# Altium integrated library HARTING DIN 41612 Type R.IntLib: 72 symbols (part 2 of 2)
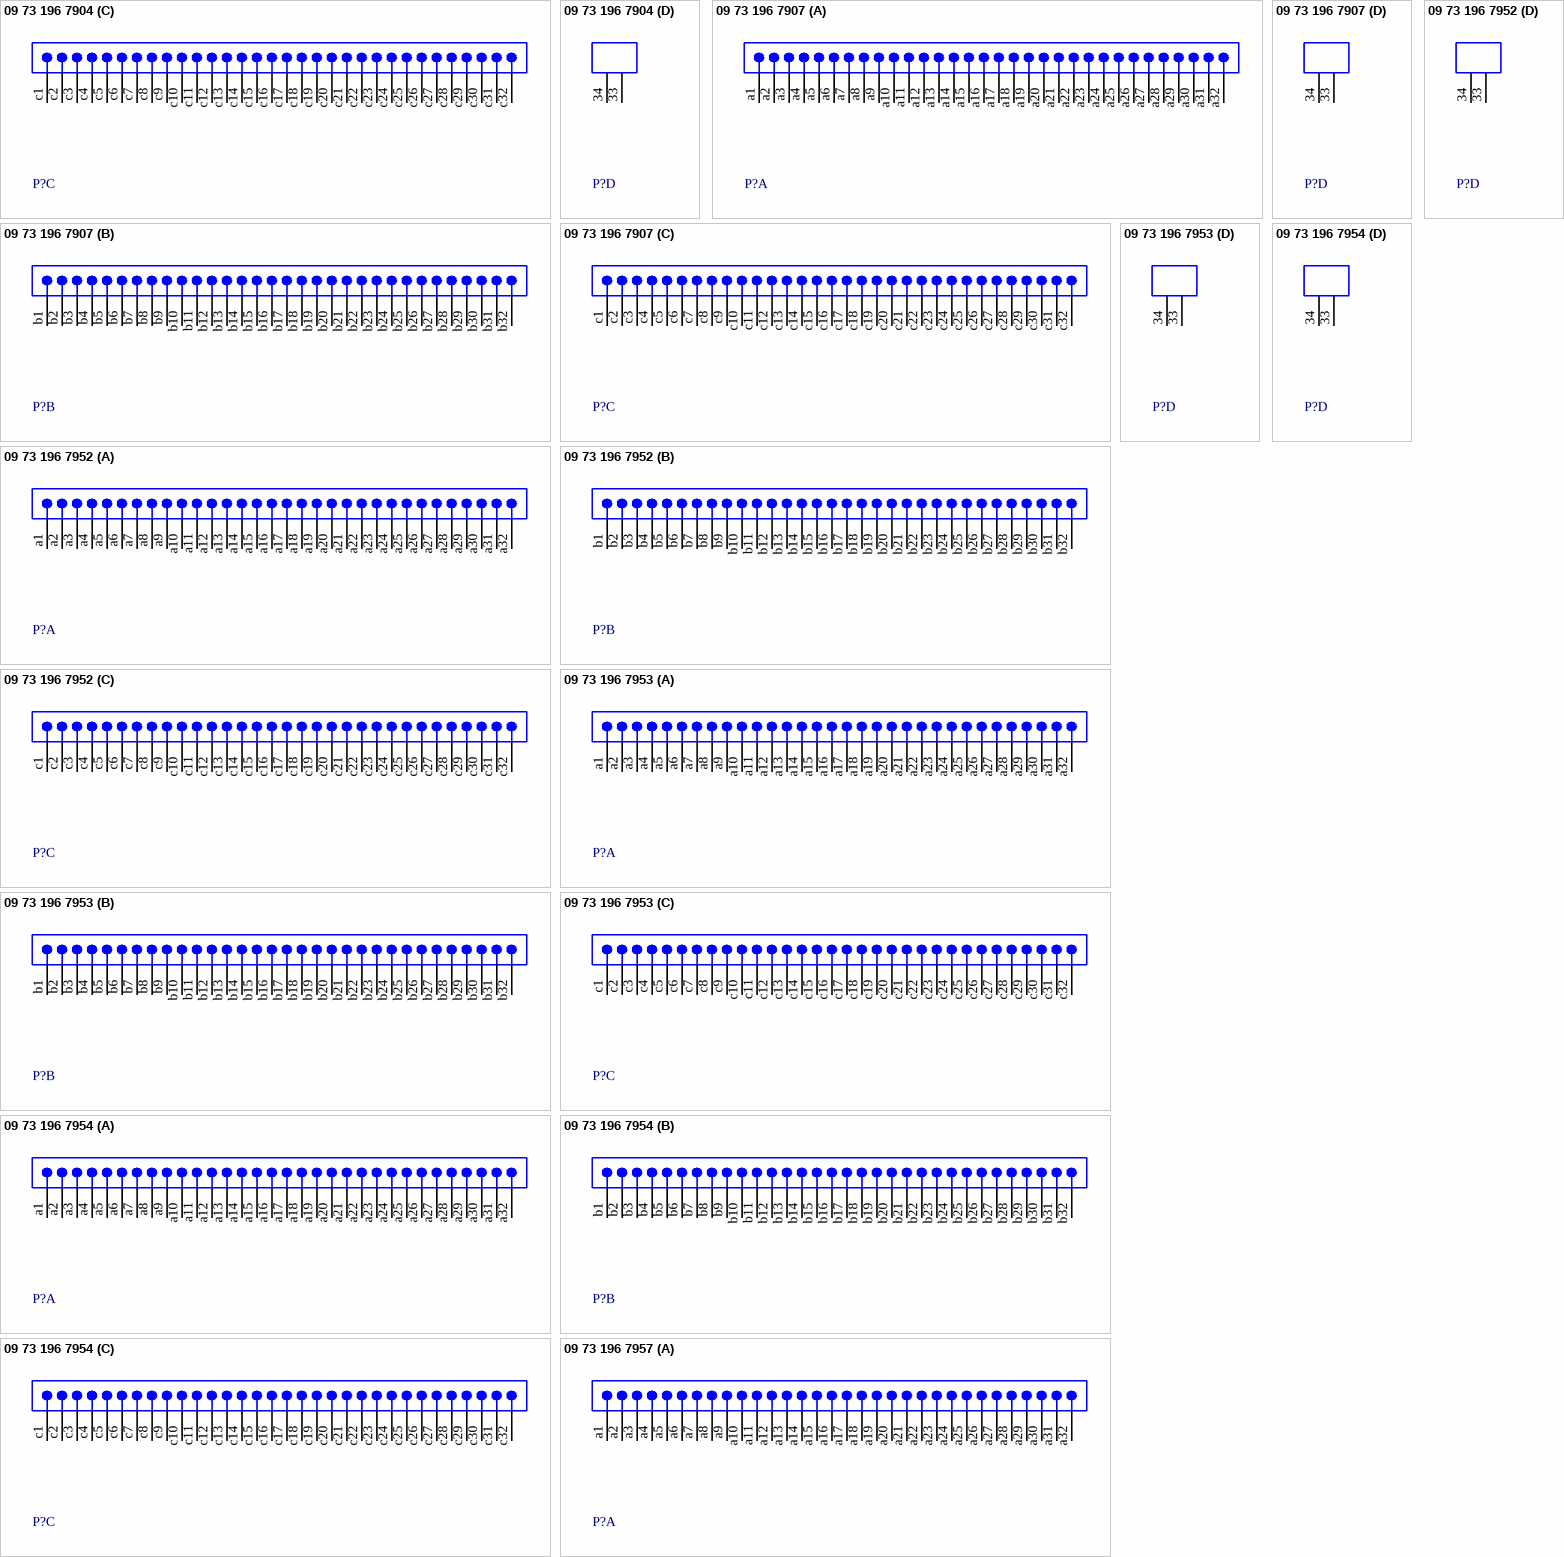
[diagram p12: symbols 09 73 196 7904 to 09 73 196 7957]

## 09 73 196 7907
designator P?
Eurocard DIN 41612, Type R, 96 Position, Rows a+b+c, Performance level 3, Male, Lead 13.0 mm, Pitch 2.54 mm; DrillSize: Corresponds to nominal value.; Published: 6-Oct-2005; DatasheetDocument: 24-Nov-2004; PackageDocument: 22-Nov-2001; PackageReference: 0973196X907; Publisher: Altium Limited; ComponentLink1Description: Manufacturer Link; ComponentLink1URL: http://www.harting.com/; ComponentLink2Description: Packaging Specification; ComponentLink2URL: http://www.harkis.harting.com/_gds/pdf/TB_0973196x907_BL01_R28737.pdf
footprint 0973196X907 (Connector; DIN 41612, Type R, Thru-Hole; Rows a+b+c, 96 Position; Vertical)
signal-integrity model DIN 41612
part A pins: a1, a2, a3, a4, a5, a6, a7, a8, a9, a10, a11, a12, a13, a14, a15, a16, a17, a18, a19, a20, a21, a22, a23, a24, a25, a26, a27, a28, a29, a30, a31, a32
part B pins: b1, b2, b3, b4, b5, b6, b7, b8, b9, b10, b11, b12, b13, b14, b15, b16, b17, b18, b19, b20, b21, b22, b23, b24, b25, b26, b27, b28, b29, b30, b31, b32
part C pins: c1, c2, c3, c4, c5, c6, c7, c8, c9, c10, c11, c12, c13, c14, c15, c16, c17, c18, c19, c20, c21, c22, c23, c24, c25, c26, c27, c28, c29, c30, c31, c32
part D pins: 33 MH1 "Mounting Fixture", 34 MH2 "Mounting Fixture"

## 09 73 196 7952
designator P?
Eurocard DIN 41612, Type R, 94+2 Position, Rows a+b+c, Performance level 3, Male, Lead 2.5 mm, Pitch 2.54 mm; Note: Two leading contacts at positions a1 & a32.; DrillSize: Corresponds to nominal value.; Published: 6-Oct-2005; DatasheetDocument: 24-Nov-2004; PackageReference: 0973196X952; Publisher: Altium Limited; ComponentLink1Description: Manufacturer Link; ComponentLink1URL: http://www.harting.com/
footprint 0973196X952 (Connector; DIN 41612, Type R, Thru-Hole; Rows a+b+c, 96 Position; Vertical)
signal-integrity model DIN 41612
part A pins: a1, a2, a3, a4, a5, a6, a7, a8, a9, a10, a11, a12, a13, a14, a15, a16, a17, a18, a19, a20, a21, a22, a23, a24, a25, a26, a27, a28, a29, a30, a31, a32
part B pins: b1, b2, b3, b4, b5, b6, b7, b8, b9, b10, b11, b12, b13, b14, b15, b16, b17, b18, b19, b20, b21, b22, b23, b24, b25, b26, b27, b28, b29, b30, b31, b32
part C pins: c1, c2, c3, c4, c5, c6, c7, c8, c9, c10, c11, c12, c13, c14, c15, c16, c17, c18, c19, c20, c21, c22, c23, c24, c25, c26, c27, c28, c29, c30, c31, c32
part D pins: 33 MH1 "Mounting Fixture", 34 MH2 "Mounting Fixture"

## 09 73 196 7953
designator P?
Eurocard DIN 41612, Type R, 94+2 Position, Rows a+b+c, Performance level 3, Male, Lead 4.0 mm, Pitch 2.54 mm; Note: Two leading contacts at positions a1 & a32.; DrillSize: Corresponds to nominal value.; Published: 6-Oct-2005; DatasheetDocument: 24-Nov-2004; PackageDocument: 25-Jan-2001; PackageReference: 0973196X953; Publisher: Altium Limited; ComponentLink1Description: Manufacturer Link; ComponentLink1URL: http://www.harting.com/; ComponentLink2Description: Packaging Specification; ComponentLink2URL: http://www.harkis.harting.com/_gds/pdf/TB_0973196x953_BL01_R28742.pdf
footprint 0973196X953 (Connector; DIN 41612, Type R, Thru-Hole; Rows a+b+c, 96 Position; Vertical)
signal-integrity model DIN 41612
part A pins: a1, a2, a3, a4, a5, a6, a7, a8, a9, a10, a11, a12, a13, a14, a15, a16, a17, a18, a19, a20, a21, a22, a23, a24, a25, a26, a27, a28, a29, a30, a31, a32
part B pins: b1, b2, b3, b4, b5, b6, b7, b8, b9, b10, b11, b12, b13, b14, b15, b16, b17, b18, b19, b20, b21, b22, b23, b24, b25, b26, b27, b28, b29, b30, b31, b32
part C pins: c1, c2, c3, c4, c5, c6, c7, c8, c9, c10, c11, c12, c13, c14, c15, c16, c17, c18, c19, c20, c21, c22, c23, c24, c25, c26, c27, c28, c29, c30, c31, c32
part D pins: 33 MH1 "Mounting Fixture", 34 MH2 "Mounting Fixture"

## 09 73 196 7954
designator P?
Eurocard DIN 41612, Type R, 94+2 Position, Rows a+b+c, Performance level 3, Male, Lead 5.0 mm, Pitch 2.54 mm; Note: Two leading contacts at positions a1 & a32.; DrillSize: Corresponds to nominal value.; Published: 6-Oct-2005; DatasheetDocument: 24-Nov-2004; PackageDocument: 12-Oct-2001; PackageReference: 0973196X954; Publisher: Altium Limited; ComponentLink1Description: Manufacturer Link; ComponentLink1URL: http://www.harting.com/; ComponentLink2Description: Packaging Specification; ComponentLink2URL: http://www.harkis.harting.com/_gds/pdf/TB_0973196x954_BL01_R30254.pdf
footprint 0973196X954 (Connector; DIN 41612, Type R, Thru-Hole; Rows a+b+c, 96 Position; Vertical)
signal-integrity model DIN 41612
part A pins: a1, a2, a3, a4, a5, a6, a7, a8, a9, a10, a11, a12, a13, a14, a15, a16, a17, a18, a19, a20, a21, a22, a23, a24, a25, a26, a27, a28, a29, a30, a31, a32
part B pins: b1, b2, b3, b4, b5, b6, b7, b8, b9, b10, b11, b12, b13, b14, b15, b16, b17, b18, b19, b20, b21, b22, b23, b24, b25, b26, b27, b28, b29, b30, b31, b32
part C pins: c1, c2, c3, c4, c5, c6, c7, c8, c9, c10, c11, c12, c13, c14, c15, c16, c17, c18, c19, c20, c21, c22, c23, c24, c25, c26, c27, c28, c29, c30, c31, c32
part D pins: 33 MH1 "Mounting Fixture", 34 MH2 "Mounting Fixture"

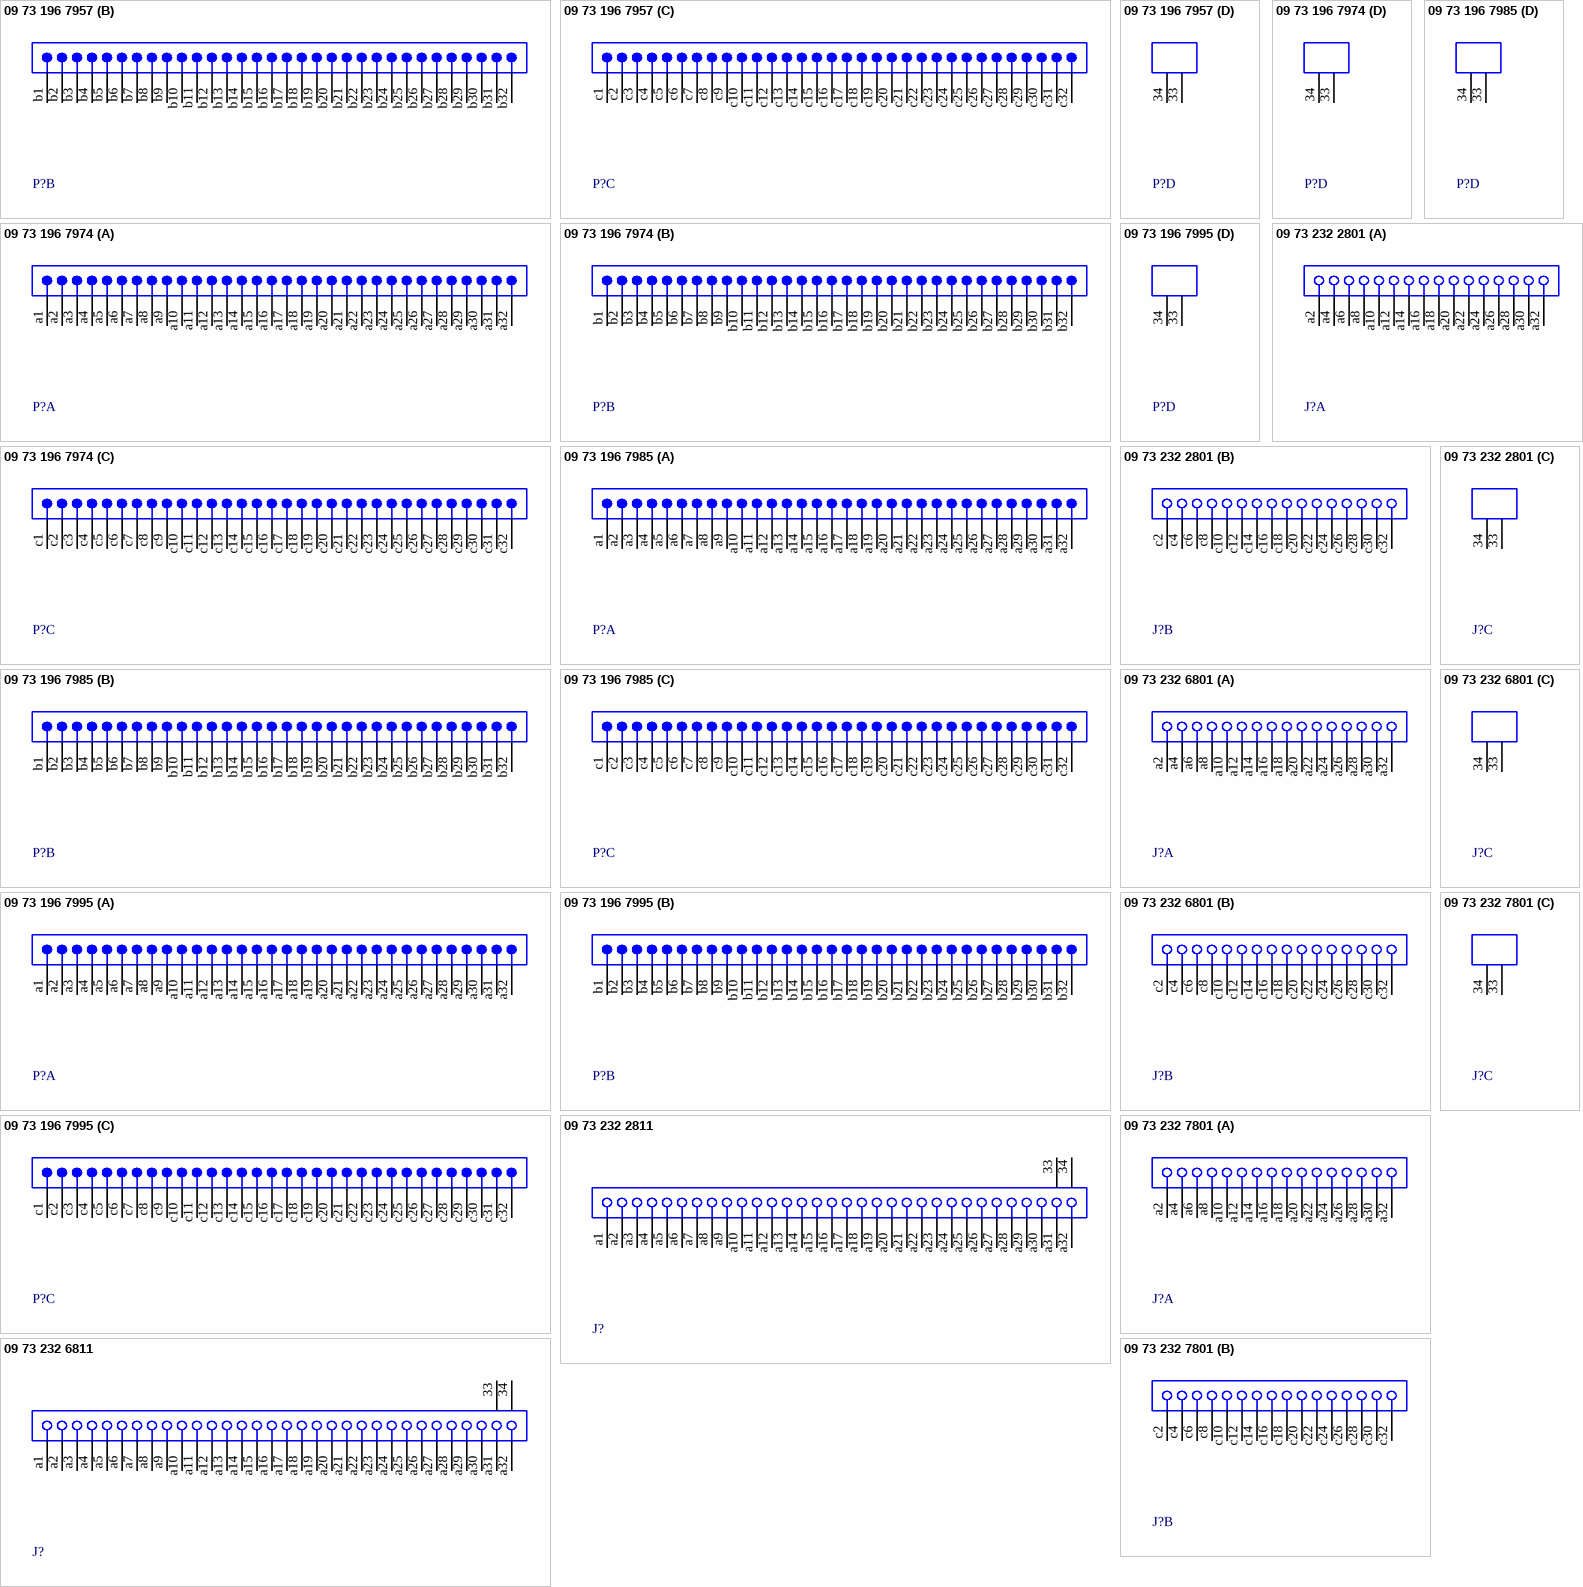
[diagram p8: symbols 09 73 196 7957 to 09 73 232 7801]

## 09 73 196 7957
designator P?
Eurocard DIN 41612, Type R, 94+2 Position, Rows a+b+c, Performance level 3, Male, Lead 13.0 mm, Pitch 2.54 mm; Note: Two leading contacts at positions a1 & a32.; DrillSize: Corresponds to nominal value.; Published: 6-Oct-2005; DatasheetDocument: 24-Nov-2004; PackageDocument: 23-Nov-2000; PackageReference: 0973196X957; Publisher: Altium Limited; ComponentLink1Description: Manufacturer Link; ComponentLink1URL: http://www.harting.com/; ComponentLink2Description: Packaging Specification; ComponentLink2URL: http://www.harkis.harting.com/_gds/pdf/TB_0973196x957_BL01_R28742.pdf
footprint 0973196X957 (Connector; DIN 41612, Type R, Thru-Hole; Rows a+b+c, 96 Position; Vertical)
signal-integrity model DIN 41612
part A pins: a1, a2, a3, a4, a5, a6, a7, a8, a9, a10, a11, a12, a13, a14, a15, a16, a17, a18, a19, a20, a21, a22, a23, a24, a25, a26, a27, a28, a29, a30, a31, a32
part B pins: b1, b2, b3, b4, b5, b6, b7, b8, b9, b10, b11, b12, b13, b14, b15, b16, b17, b18, b19, b20, b21, b22, b23, b24, b25, b26, b27, b28, b29, b30, b31, b32
part C pins: c1, c2, c3, c4, c5, c6, c7, c8, c9, c10, c11, c12, c13, c14, c15, c16, c17, c18, c19, c20, c21, c22, c23, c24, c25, c26, c27, c28, c29, c30, c31, c32
part D pins: 33 MH1 "Mounting Fixture", 34 MH2 "Mounting Fixture"

## 09 73 196 7974
designator P?
Eurocard DIN 41612, Type R, 96 Position, Rows a+b+c, Performance level 3, Male, Lead 13.0 mm, Pitch 2.54 mm; DrillSize: Corresponds to nominal value.; Published: 6-Oct-2005; DatasheetDocument: 24-Nov-2004; PackageDocument: 15-Feb-2001; PackageReference: 0973196X974; Publisher: Altium Limited; ComponentLink1Description: Manufacturer Link; ComponentLink1URL: http://www.harting.com/; ComponentLink2Description: Packaging Specification; ComponentLink2URL: http://www.harkis.harting.com/_gds/pdf/TB_0973196x974_BL01_R28736.pdf
footprint 0973196X974 (Connector; DIN 41612, Type R, Thru-Hole; Rows a+b+c, 96 Position; Vertical)
signal-integrity model DIN 41612
part A pins: a1, a2, a3, a4, a5, a6, a7, a8, a9, a10, a11, a12, a13, a14, a15, a16, a17, a18, a19, a20, a21, a22, a23, a24, a25, a26, a27, a28, a29, a30, a31, a32
part B pins: b1, b2, b3, b4, b5, b6, b7, b8, b9, b10, b11, b12, b13, b14, b15, b16, b17, b18, b19, b20, b21, b22, b23, b24, b25, b26, b27, b28, b29, b30, b31, b32
part C pins: c1, c2, c3, c4, c5, c6, c7, c8, c9, c10, c11, c12, c13, c14, c15, c16, c17, c18, c19, c20, c21, c22, c23, c24, c25, c26, c27, c28, c29, c30, c31, c32
part D pins: 33 MH1 "Mounting Fixture", 34 MH2 "Mounting Fixture"

## 09 73 196 7985
designator P?
Eurocard DIN 41612, Type R, 96 Position, Rows a+b+c, Performance level 3, Male, Lead 13.0 mm, Pitch 2.54 mm; DrillSize: Corresponds to nominal value.; Published: 6-Oct-2005; DatasheetDocument: 24-Nov-2004; PackageDocument: 15-Feb-2001; PackageReference: 0973196X985; Publisher: Altium Limited; ComponentLink1Description: Manufacturer Link; ComponentLink1URL: http://www.harting.com/; ComponentLink2Description: Packaging Specification; ComponentLink2URL: http://www.harkis.harting.com/_gds/pdf/TB_0973196x985_BL01_R28736.pdf
footprint 0973196X985 (Connector; DIN 41612, Type R, Thru-Hole; Rows a+b+c, 96 Position; Vertical)
signal-integrity model DIN 41612
part A pins: a1, a2, a3, a4, a5, a6, a7, a8, a9, a10, a11, a12, a13, a14, a15, a16, a17, a18, a19, a20, a21, a22, a23, a24, a25, a26, a27, a28, a29, a30, a31, a32
part B pins: b1, b2, b3, b4, b5, b6, b7, b8, b9, b10, b11, b12, b13, b14, b15, b16, b17, b18, b19, b20, b21, b22, b23, b24, b25, b26, b27, b28, b29, b30, b31, b32
part C pins: c1, c2, c3, c4, c5, c6, c7, c8, c9, c10, c11, c12, c13, c14, c15, c16, c17, c18, c19, c20, c21, c22, c23, c24, c25, c26, c27, c28, c29, c30, c31, c32
part D pins: 33 MH1 "Mounting Fixture", 34 MH2 "Mounting Fixture"

## 09 73 196 7995
designator P?
Eurocard DIN 41612, Type R, 94+2 Position, Rows a+b+c, Performance level 3, Male, Lead 13.0 mm, Pitch 2.54 mm; Note: Two leading contacts at positions a1 & a32.; DrillSize: Corresponds to nominal value.; Published: 6-Oct-2005; DatasheetDocument: 24-Nov-2004; PackageReference: 0973196X995; Publisher: Altium Limited; ComponentLink1Description: Manufacturer Link; ComponentLink1URL: http://www.harting.com/
footprint 0973196X995 (Connector; DIN 41612, Type R, Thru-Hole; Rows a+b+c, 96 Position; Vertical)
signal-integrity model DIN 41612
part A pins: a1, a2, a3, a4, a5, a6, a7, a8, a9, a10, a11, a12, a13, a14, a15, a16, a17, a18, a19, a20, a21, a22, a23, a24, a25, a26, a27, a28, a29, a30, a31, a32
part B pins: b1, b2, b3, b4, b5, b6, b7, b8, b9, b10, b11, b12, b13, b14, b15, b16, b17, b18, b19, b20, b21, b22, b23, b24, b25, b26, b27, b28, b29, b30, b31, b32
part C pins: c1, c2, c3, c4, c5, c6, c7, c8, c9, c10, c11, c12, c13, c14, c15, c16, c17, c18, c19, c20, c21, c22, c23, c24, c25, c26, c27, c28, c29, c30, c31, c32
part D pins: 33 MH1 "Mounting Fixture", 34 MH2 "Mounting Fixture"

## 09 73 232 2801
designator J?
Eurocard DIN 41612, Type R, 32 Position, Rows a+c, Performance level 1, Female, Lead 3.0 mm, Pitch 2.54 mm; DrillSize: Corresponds to nominal value.; Published: 6-Oct-2005; DatasheetDocument: 24-Nov-2004; PackageDocument: 07-Sep-1999; PackageReference: 0973232X801; Publisher: Altium Limited; ComponentLink1Description: Manufacturer Link; ComponentLink1URL: http://www.harting.com/; ComponentLink2Description: Packaging Specification; ComponentLink2URL: http://www.harkis.harting.com/_gds/pdf/TB_0973232x801_BL01_R31033.pdf
footprint 0973232X801 (Connector; DIN 41612, Type R, Thru-Hole; Rows a+c, 32 Position; Right Angle)
signal-integrity model DIN 41612
part A pins: a2, a4, a6, a8, a10, a12, a14, a16, a18, a20, a22, a24, a26, a28, a30, a32
part B pins: c2, c4, c6, c8, c10, c12, c14, c16, c18, c20, c22, c24, c26, c28, c30, c32
part C pins: 33 MH1 "Mounting Fixture", 34 MH2 "Mounting Fixture"

## 09 73 232 2811
designator J?
Eurocard DIN 41612, Type R, 32 Position, Row a, Performance level 1, Female, Lead 3.0 mm, Pitch 2.54 mm; DrillSize: Corresponds to nominal value.; Published: 6-Oct-2005; DatasheetDocument: 24-Nov-2004; PackageDocument: 07-Sep-1999; PackageReference: 0973232X811; Publisher: Altium Limited; ComponentLink1Description: Manufacturer Link; ComponentLink1URL: http://www.harting.com/; ComponentLink2Description: Packaging Specification; ComponentLink2URL: http://www.harkis.harting.com/_gds/pdf/TB_0973232x811_BL01_R31033.pdf
footprint 0973232X811 (Connector; DIN 41612, Type R, Thru-Hole; Row a, 32 Position; Right Angle)
signal-integrity model DIN 41612
pins: 33 MH1 "Mounting Fixture", 34 MH2 "Mounting Fixture", a1, a2, a3, a4, a5, a6, a7, a8, a9, a10, a11, a12, a13, a14, a15, a16, a17, a18, a19, a20, a21, a22, a23, a24, a25, a26, a27, a28, a29, a30, a31, a32

## 09 73 232 6801
designator J?
Eurocard DIN 41612, Type R, 32 Position, Rows a+c, Performance level 2, Female, Lead 3.0 mm, Pitch 2.54 mm; DrillSize: Corresponds to nominal value.; Published: 6-Oct-2005; DatasheetDocument: 24-Nov-2004; PackageDocument: 07-Sep-1999; PackageReference: 0973232X801; Publisher: Altium Limited; ComponentLink1Description: Manufacturer Link; ComponentLink1URL: http://www.harting.com/; ComponentLink2Description: Packaging Specification; ComponentLink2URL: http://www.harkis.harting.com/_gds/pdf/TB_0973232x801_BL01_R31033.pdf
footprint 0973232X801 (Connector; DIN 41612, Type R, Thru-Hole; Rows a+c, 32 Position; Right Angle)
signal-integrity model DIN 41612
part A pins: a2, a4, a6, a8, a10, a12, a14, a16, a18, a20, a22, a24, a26, a28, a30, a32
part B pins: c2, c4, c6, c8, c10, c12, c14, c16, c18, c20, c22, c24, c26, c28, c30, c32
part C pins: 33 MH1 "Mounting Fixture", 34 MH2 "Mounting Fixture"

## 09 73 232 6811
designator J?
Eurocard DIN 41612, Type R, 32 Position, Row a, Performance level 2, Female, Lead 3.0 mm, Pitch 2.54 mm; DrillSize: Corresponds to nominal value.; Published: 6-Oct-2005; DatasheetDocument: 24-Nov-2004; PackageDocument: 07-Sep-1999; PackageReference: 0973232X811; Publisher: Altium Limited; ComponentLink1Description: Manufacturer Link; ComponentLink1URL: http://www.harting.com/; ComponentLink2Description: Packaging Specification; ComponentLink2URL: http://www.harkis.harting.com/_gds/pdf/TB_0973232x811_BL01_R31033.pdf
footprint 0973232X811 (Connector; DIN 41612, Type R, Thru-Hole; Row a, 32 Position; Right Angle)
signal-integrity model DIN 41612
pins: 33 MH1 "Mounting Fixture", 34 MH2 "Mounting Fixture", a1, a2, a3, a4, a5, a6, a7, a8, a9, a10, a11, a12, a13, a14, a15, a16, a17, a18, a19, a20, a21, a22, a23, a24, a25, a26, a27, a28, a29, a30, a31, a32

## 09 73 232 7801
designator J?
Eurocard DIN 41612, Type R, 32 Position, Rows a+c, Performance level 3, Female, Lead 3.0 mm, Pitch 2.54 mm; DrillSize: Corresponds to nominal value.; Published: 6-Oct-2005; DatasheetDocument: 24-Nov-2004; PackageDocument: 07-Sep-1999; PackageReference: 0973232X801; Publisher: Altium Limited; ComponentLink1Description: Manufacturer Link; ComponentLink1URL: http://www.harting.com/; ComponentLink2Description: Packaging Specification; ComponentLink2URL: http://www.harkis.harting.com/_gds/pdf/TB_0973232x801_BL01_R31033.pdf
footprint 0973232X801 (Connector; DIN 41612, Type R, Thru-Hole; Rows a+c, 32 Position; Right Angle)
signal-integrity model DIN 41612
part A pins: a2, a4, a6, a8, a10, a12, a14, a16, a18, a20, a22, a24, a26, a28, a30, a32
part B pins: c2, c4, c6, c8, c10, c12, c14, c16, c18, c20, c22, c24, c26, c28, c30, c32
part C pins: 33 MH1 "Mounting Fixture", 34 MH2 "Mounting Fixture"

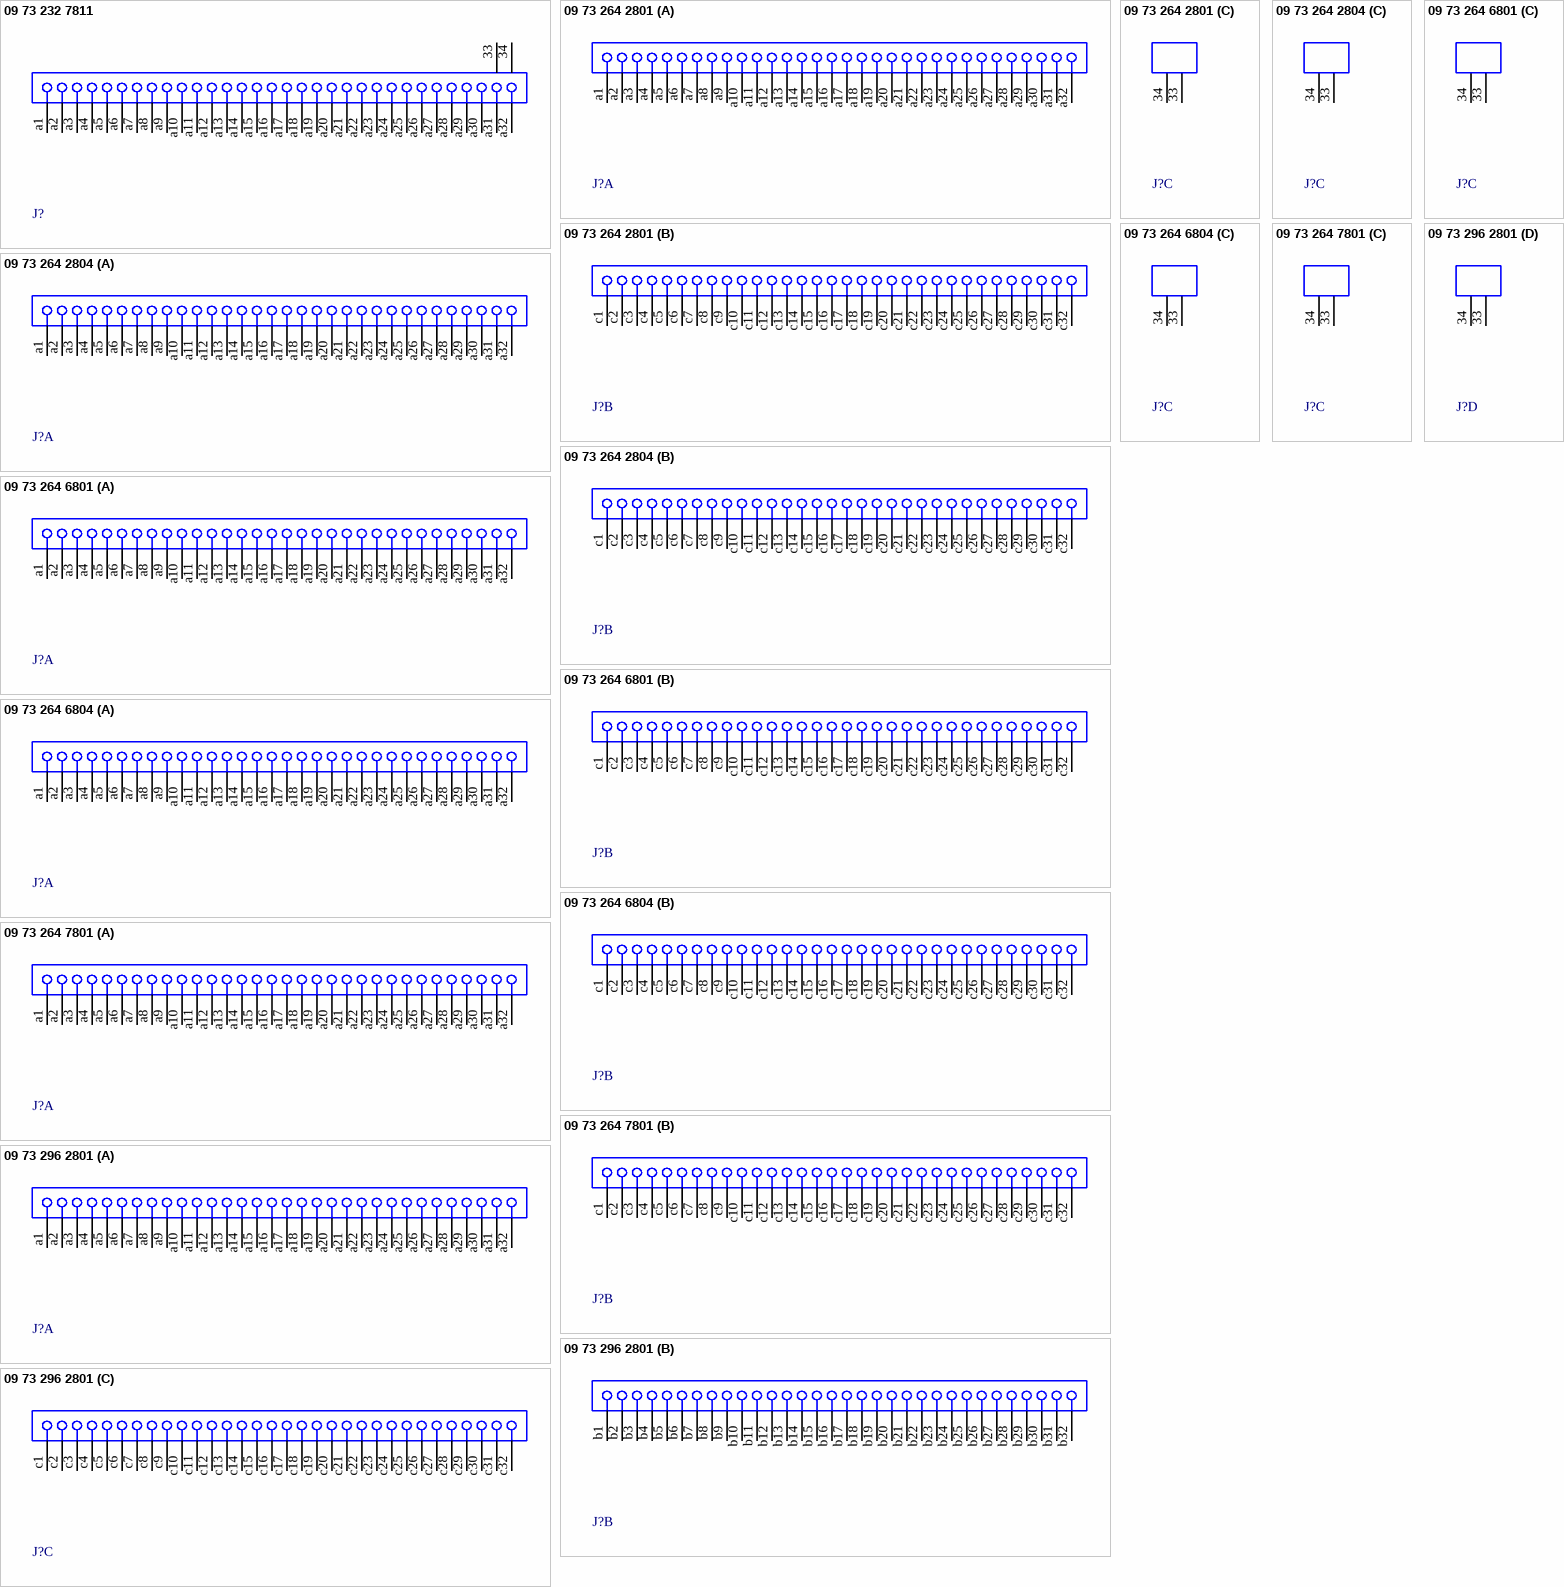
[diagram p9: symbols 09 73 232 7811 to 09 73 296 2801]

## 09 73 232 7811
designator J?
Eurocard DIN 41612, Type R, 32 Position, Row a, Performance level 3, Female, Lead 3.0 mm, Pitch 2.54 mm; DrillSize: Corresponds to nominal value.; Published: 6-Oct-2005; DatasheetDocument: 24-Nov-2004; PackageDocument: 07-Sep-1999; PackageReference: 0973232X811; Publisher: Altium Limited; ComponentLink1Description: Manufacturer Link; ComponentLink1URL: http://www.harting.com/; ComponentLink2Description: Packaging Specification; ComponentLink2URL: http://www.harkis.harting.com/_gds/pdf/TB_0973232x811_BL01_R31033.pdf
footprint 0973232X811 (Connector; DIN 41612, Type R, Thru-Hole; Row a, 32 Position; Right Angle)
signal-integrity model DIN 41612
pins: 33 MH1 "Mounting Fixture", 34 MH2 "Mounting Fixture", a1, a2, a3, a4, a5, a6, a7, a8, a9, a10, a11, a12, a13, a14, a15, a16, a17, a18, a19, a20, a21, a22, a23, a24, a25, a26, a27, a28, a29, a30, a31, a32

## 09 73 264 2801
designator J?
Eurocard DIN 41612, Type R, 64 Position, Rows a+c, Performance level 1, Female, Lead 3.0 mm, Pitch 2.54 mm; DrillSize: Corresponds to nominal value.; Published: 6-Oct-2005; DatasheetDocument: 24-Nov-2004; PackageDocument: 17-Aug-1998; PackageReference: 0973264X801; Publisher: Altium Limited; ComponentLink1Description: Manufacturer Link; ComponentLink1URL: http://www.harting.com/; ComponentLink2Description: Packaging Specification; ComponentLink2URL: http://www.harkis.harting.com/_gds/pdf/TB_0973264x801_BL01_R31100.pdf
footprint 0973264X801 (Connector; DIN 41612, Type R, Thru-Hole; Rows a+c, 64 Position; Right Angle)
signal-integrity model DIN 41612
part A pins: a1, a2, a3, a4, a5, a6, a7, a8, a9, a10, a11, a12, a13, a14, a15, a16, a17, a18, a19, a20, a21, a22, a23, a24, a25, a26, a27, a28, a29, a30, a31, a32
part B pins: c1, c2, c3, c4, c5, c6, c7, c8, c9, c10, c11, c12, c13, c14, c15, c16, c17, c18, c19, c20, c21, c22, c23, c24, c25, c26, c27, c28, c29, c30, c31, c32
part C pins: 33 MH1 "Mounting Fixture", 34 MH2 "Mounting Fixture"

## 09 73 264 2804
designator J?
Eurocard DIN 41612, Type R, 64 Position, Rows a+c, Performance level 1, Female, Lead 2.8 mm, Pitch 2.54 mm; DrillSize: Corresponds to nominal value.; Published: 6-Oct-2005; DatasheetDocument: 24-Nov-2004; PackageReference: 0973264X804; Publisher: Altium Limited; ComponentLink1Description: Manufacturer Link; ComponentLink1URL: http://www.harting.com/
footprint 0973264X804 (Connector; DIN 41612, Type R, Thru-Hole; Rows a+c, 64 Position; Right Angle)
signal-integrity model DIN 41612
part A pins: a1, a2, a3, a4, a5, a6, a7, a8, a9, a10, a11, a12, a13, a14, a15, a16, a17, a18, a19, a20, a21, a22, a23, a24, a25, a26, a27, a28, a29, a30, a31, a32
part B pins: c1, c2, c3, c4, c5, c6, c7, c8, c9, c10, c11, c12, c13, c14, c15, c16, c17, c18, c19, c20, c21, c22, c23, c24, c25, c26, c27, c28, c29, c30, c31, c32
part C pins: 33 MH1 "Mounting Fixture", 34 MH2 "Mounting Fixture"

## 09 73 264 6801
designator J?
Eurocard DIN 41612, Type R, 64 Position, Rows a+c, Performance level 2, Female, Lead 3.0 mm, Pitch 2.54 mm; DrillSize: Corresponds to nominal value.; Published: 6-Oct-2005; DatasheetDocument: 24-Nov-2004; PackageDocument: 17-Aug-1998; PackageReference: 0973264X801; Publisher: Altium Limited; ComponentLink1Description: Manufacturer Link; ComponentLink1URL: http://www.harting.com/; ComponentLink2Description: Packaging Specification; ComponentLink2URL: http://www.harkis.harting.com/_gds/pdf/TB_0973264x801_BL01_R31100.pdf
footprint 0973264X801 (Connector; DIN 41612, Type R, Thru-Hole; Rows a+c, 64 Position; Right Angle)
signal-integrity model DIN 41612
part A pins: a1, a2, a3, a4, a5, a6, a7, a8, a9, a10, a11, a12, a13, a14, a15, a16, a17, a18, a19, a20, a21, a22, a23, a24, a25, a26, a27, a28, a29, a30, a31, a32
part B pins: c1, c2, c3, c4, c5, c6, c7, c8, c9, c10, c11, c12, c13, c14, c15, c16, c17, c18, c19, c20, c21, c22, c23, c24, c25, c26, c27, c28, c29, c30, c31, c32
part C pins: 33 MH1 "Mounting Fixture", 34 MH2 "Mounting Fixture"

## 09 73 264 6804
designator J?
Eurocard DIN 41612, Type R, 64 Position, Rows a+c, Performance level 2, Female, Lead 2.8 mm, Pitch 2.54 mm; DrillSize: Corresponds to nominal value.; Published: 6-Oct-2005; DatasheetDocument: 24-Nov-2004; PackageReference: 0973264X804; Publisher: Altium Limited; ComponentLink1Description: Manufacturer Link; ComponentLink1URL: http://www.harting.com/
footprint 0973264X804 (Connector; DIN 41612, Type R, Thru-Hole; Rows a+c, 64 Position; Right Angle)
signal-integrity model DIN 41612
part A pins: a1, a2, a3, a4, a5, a6, a7, a8, a9, a10, a11, a12, a13, a14, a15, a16, a17, a18, a19, a20, a21, a22, a23, a24, a25, a26, a27, a28, a29, a30, a31, a32
part B pins: c1, c2, c3, c4, c5, c6, c7, c8, c9, c10, c11, c12, c13, c14, c15, c16, c17, c18, c19, c20, c21, c22, c23, c24, c25, c26, c27, c28, c29, c30, c31, c32
part C pins: 33 MH1 "Mounting Fixture", 34 MH2 "Mounting Fixture"

## 09 73 264 7801
designator J?
Eurocard DIN 41612, Type R, 64 Position, Rows a+c, Performance level 3, Female, Lead 3.0 mm, Pitch 2.54 mm; DrillSize: Corresponds to nominal value.; Published: 6-Oct-2005; DatasheetDocument: 24-Nov-2004; PackageDocument: 17-Aug-1998; PackageReference: 0973264X801; Publisher: Altium Limited; ComponentLink1Description: Manufacturer Link; ComponentLink1URL: http://www.harting.com/; ComponentLink2Description: Packaging Specification; ComponentLink2URL: http://www.harkis.harting.com/_gds/pdf/TB_0973264x801_BL01_R31100.pdf
footprint 0973264X801 (Connector; DIN 41612, Type R, Thru-Hole; Rows a+c, 64 Position; Right Angle)
signal-integrity model DIN 41612
part A pins: a1, a2, a3, a4, a5, a6, a7, a8, a9, a10, a11, a12, a13, a14, a15, a16, a17, a18, a19, a20, a21, a22, a23, a24, a25, a26, a27, a28, a29, a30, a31, a32
part B pins: c1, c2, c3, c4, c5, c6, c7, c8, c9, c10, c11, c12, c13, c14, c15, c16, c17, c18, c19, c20, c21, c22, c23, c24, c25, c26, c27, c28, c29, c30, c31, c32
part C pins: 33 MH1 "Mounting Fixture", 34 MH2 "Mounting Fixture"

## 09 73 296 2801
designator J?
Eurocard DIN 41612, Type R, 96 Position, Rows a+b+c, Performance level 1, Female, Lead 3.0 mm, Pitch 2.54 mm; DrillSize: Corresponds to nominal value.; Published: 6-Oct-2005; DatasheetDocument: 24-Nov-2004; PackageDocument: 17-Aug-1998; PackageReference: 0973296X801; Publisher: Altium Limited; ComponentLink1Description: Manufacturer Link; ComponentLink1URL: http://www.harting.com/; ComponentLink2Description: Packaging Specification; ComponentLink2URL: http://www.harkis.harting.com/_gds/pdf/TB_0973296x801_BL01_R31100.pdf
footprint 0973296X801 (Connector; DIN 41612, Type R, Thru-Hole; Rows a+b+c, 96 Position; Right Angle)
signal-integrity model DIN 41612
part A pins: a1, a2, a3, a4, a5, a6, a7, a8, a9, a10, a11, a12, a13, a14, a15, a16, a17, a18, a19, a20, a21, a22, a23, a24, a25, a26, a27, a28, a29, a30, a31, a32
part B pins: b1, b2, b3, b4, b5, b6, b7, b8, b9, b10, b11, b12, b13, b14, b15, b16, b17, b18, b19, b20, b21, b22, b23, b24, b25, b26, b27, b28, b29, b30, b31, b32
part C pins: c1, c2, c3, c4, c5, c6, c7, c8, c9, c10, c11, c12, c13, c14, c15, c16, c17, c18, c19, c20, c21, c22, c23, c24, c25, c26, c27, c28, c29, c30, c31, c32
part D pins: 33 MH1 "Mounting Fixture", 34 MH2 "Mounting Fixture"

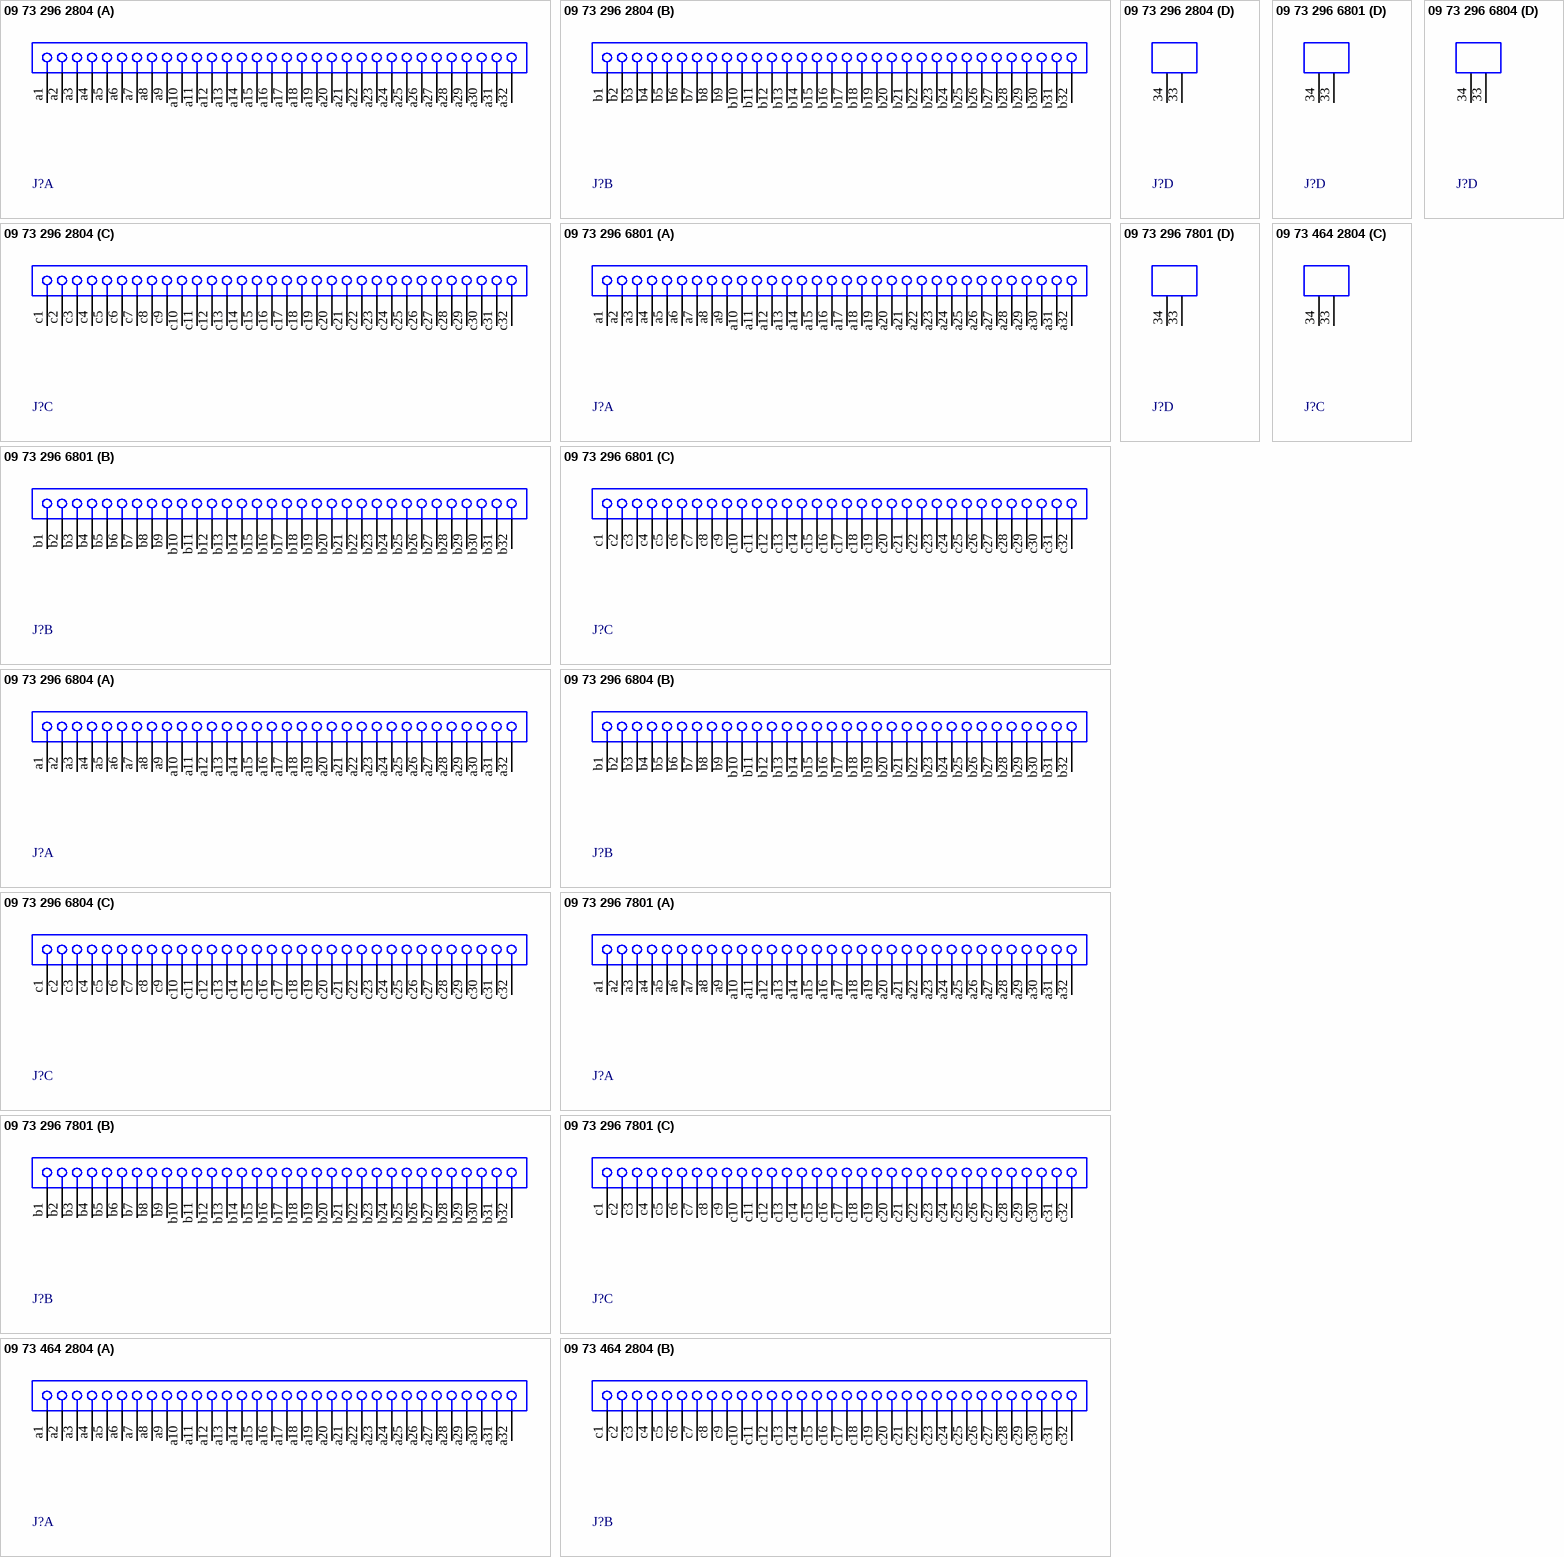
[diagram p10: symbols 09 73 296 2804 to 09 73 464 2804]

## 09 73 296 2804
designator J?
Eurocard DIN 41612, Type R, 96 Position, Rows a+b+c, Performance level 1, Female, Lead 2.8 mm, Pitch 2.54 mm; DrillSize: Corresponds to nominal value.; Published: 6-Oct-2005; DatasheetDocument: 24-Nov-2004; PackageDocument: 14/12/2004; PackageReference: 0973296X804; Publisher: Altium Limited; ComponentLink1Description: Manufacturer Link; ComponentLink1URL: http://www.harting.com/; ComponentLink2Description: Packaging Specification; ComponentLink2URL: http://www.harkis.harting.com/_gds/pdf/TB_0973296x804_BL01_R32453.pdf
footprint 0973296X804 (Connector; DIN 41612, Type R, Thru-Hole; Rows a+b+c, 96 Position; Vertical)
signal-integrity model DIN 41612
part A pins: a1, a2, a3, a4, a5, a6, a7, a8, a9, a10, a11, a12, a13, a14, a15, a16, a17, a18, a19, a20, a21, a22, a23, a24, a25, a26, a27, a28, a29, a30, a31, a32
part B pins: b1, b2, b3, b4, b5, b6, b7, b8, b9, b10, b11, b12, b13, b14, b15, b16, b17, b18, b19, b20, b21, b22, b23, b24, b25, b26, b27, b28, b29, b30, b31, b32
part C pins: c1, c2, c3, c4, c5, c6, c7, c8, c9, c10, c11, c12, c13, c14, c15, c16, c17, c18, c19, c20, c21, c22, c23, c24, c25, c26, c27, c28, c29, c30, c31, c32
part D pins: 33 MH1 "Mounting Fixture", 34 MH2 "Mounting Fixture"

## 09 73 296 6801
designator J?
Eurocard DIN 41612, Type R, 96 Position, Rows a+b+c, Performance level 2, Female, Lead 3.0 mm, Pitch 2.54 mm; DrillSize: Corresponds to nominal value.; Published: 6-Oct-2005; DatasheetDocument: 24-Nov-2004; PackageDocument: 17-Aug-1998; PackageReference: 0973296X801; Publisher: Altium Limited; ComponentLink1Description: Manufacturer Link; ComponentLink1URL: http://www.harting.com/; ComponentLink2Description: Packaging Specification; ComponentLink2URL: http://www.harkis.harting.com/_gds/pdf/TB_0973296x801_BL01_R31100.pdf
footprint 0973296X801 (Connector; DIN 41612, Type R, Thru-Hole; Rows a+b+c, 96 Position; Right Angle)
signal-integrity model DIN 41612
part A pins: a1, a2, a3, a4, a5, a6, a7, a8, a9, a10, a11, a12, a13, a14, a15, a16, a17, a18, a19, a20, a21, a22, a23, a24, a25, a26, a27, a28, a29, a30, a31, a32
part B pins: b1, b2, b3, b4, b5, b6, b7, b8, b9, b10, b11, b12, b13, b14, b15, b16, b17, b18, b19, b20, b21, b22, b23, b24, b25, b26, b27, b28, b29, b30, b31, b32
part C pins: c1, c2, c3, c4, c5, c6, c7, c8, c9, c10, c11, c12, c13, c14, c15, c16, c17, c18, c19, c20, c21, c22, c23, c24, c25, c26, c27, c28, c29, c30, c31, c32
part D pins: 33 MH1 "Mounting Fixture", 34 MH2 "Mounting Fixture"

## 09 73 296 6804
designator J?
Eurocard DIN 41612, Type R, 96 Position, Rows a+b+c, Performance level 2, Female, Lead 2.8 mm, Pitch 2.54 mm; DrillSize: Corresponds to nominal value.; Published: 6-Oct-2005; DatasheetDocument: 24-Nov-2004; PackageDocument: 14/12/2004; PackageReference: 0973296X804; Publisher: Altium Limited; ComponentLink1Description: Manufacturer Link; ComponentLink1URL: http://www.harting.com/; ComponentLink2Description: Packaging Specification; ComponentLink2URL: http://www.harkis.harting.com/_gds/pdf/TB_0973296x804_BL01_R32453.pdf
footprint 0973296X804 (Connector; DIN 41612, Type R, Thru-Hole; Rows a+b+c, 96 Position; Vertical)
signal-integrity model DIN 41612
part A pins: a1, a2, a3, a4, a5, a6, a7, a8, a9, a10, a11, a12, a13, a14, a15, a16, a17, a18, a19, a20, a21, a22, a23, a24, a25, a26, a27, a28, a29, a30, a31, a32
part B pins: b1, b2, b3, b4, b5, b6, b7, b8, b9, b10, b11, b12, b13, b14, b15, b16, b17, b18, b19, b20, b21, b22, b23, b24, b25, b26, b27, b28, b29, b30, b31, b32
part C pins: c1, c2, c3, c4, c5, c6, c7, c8, c9, c10, c11, c12, c13, c14, c15, c16, c17, c18, c19, c20, c21, c22, c23, c24, c25, c26, c27, c28, c29, c30, c31, c32
part D pins: 33 MH1 "Mounting Fixture", 34 MH2 "Mounting Fixture"

## 09 73 296 7801
designator J?
Eurocard DIN 41612, Type R, 96 Position, Rows a+b+c, Performance level 3, Female, Lead 3.0 mm, Pitch 2.54 mm; DrillSize: Corresponds to nominal value.; Published: 6-Oct-2005; DatasheetDocument: 24-Nov-2004; PackageDocument: 17-Aug-1998; PackageReference: 0973296X801; Publisher: Altium Limited; ComponentLink1Description: Manufacturer Link; ComponentLink1URL: http://www.harting.com/; ComponentLink2Description: Packaging Specification; ComponentLink2URL: http://www.harkis.harting.com/_gds/pdf/TB_0973296x801_BL01_R31100.pdf
footprint 0973296X801 (Connector; DIN 41612, Type R, Thru-Hole; Rows a+b+c, 96 Position; Right Angle)
signal-integrity model DIN 41612
part A pins: a1, a2, a3, a4, a5, a6, a7, a8, a9, a10, a11, a12, a13, a14, a15, a16, a17, a18, a19, a20, a21, a22, a23, a24, a25, a26, a27, a28, a29, a30, a31, a32
part B pins: b1, b2, b3, b4, b5, b6, b7, b8, b9, b10, b11, b12, b13, b14, b15, b16, b17, b18, b19, b20, b21, b22, b23, b24, b25, b26, b27, b28, b29, b30, b31, b32
part C pins: c1, c2, c3, c4, c5, c6, c7, c8, c9, c10, c11, c12, c13, c14, c15, c16, c17, c18, c19, c20, c21, c22, c23, c24, c25, c26, c27, c28, c29, c30, c31, c32
part D pins: 33 MH1 "Mounting Fixture", 34 MH2 "Mounting Fixture"

## 09 73 464 2804
designator J?
Eurocard DIN 41612, Type R, 64 Position, Rows a+c, Performance level 1, Female, Lead 2.8 mm, Pitch 2.54 mm; DrillSize: Corresponds to nominal value.; Published: 6-Oct-2005; DatasheetDocument: 24-Nov-2004; PackageDocument: 04-Feb-1999; PackageReference: 0973464X804; Publisher: Altium Limited; ComponentLink1Description: Manufacturer Link; ComponentLink1URL: http://www.harting.com/; ComponentLink2Description: Packaging Specification; ComponentLink2URL: http://www.harkis.harting.com/_gds/pdf/TB_0973464x804_BL01_R31102.pdf
footprint 0973464X804 (Connector; DIN 41612, Type R, Thru-Hole; Rows a+c, 64 Position; Right Angle)
signal-integrity model DIN 41612
part A pins: a1, a2, a3, a4, a5, a6, a7, a8, a9, a10, a11, a12, a13, a14, a15, a16, a17, a18, a19, a20, a21, a22, a23, a24, a25, a26, a27, a28, a29, a30, a31, a32
part B pins: c1, c2, c3, c4, c5, c6, c7, c8, c9, c10, c11, c12, c13, c14, c15, c16, c17, c18, c19, c20, c21, c22, c23, c24, c25, c26, c27, c28, c29, c30, c31, c32
part C pins: 33 MH1 "Mounting Fixture", 34 MH2 "Mounting Fixture"

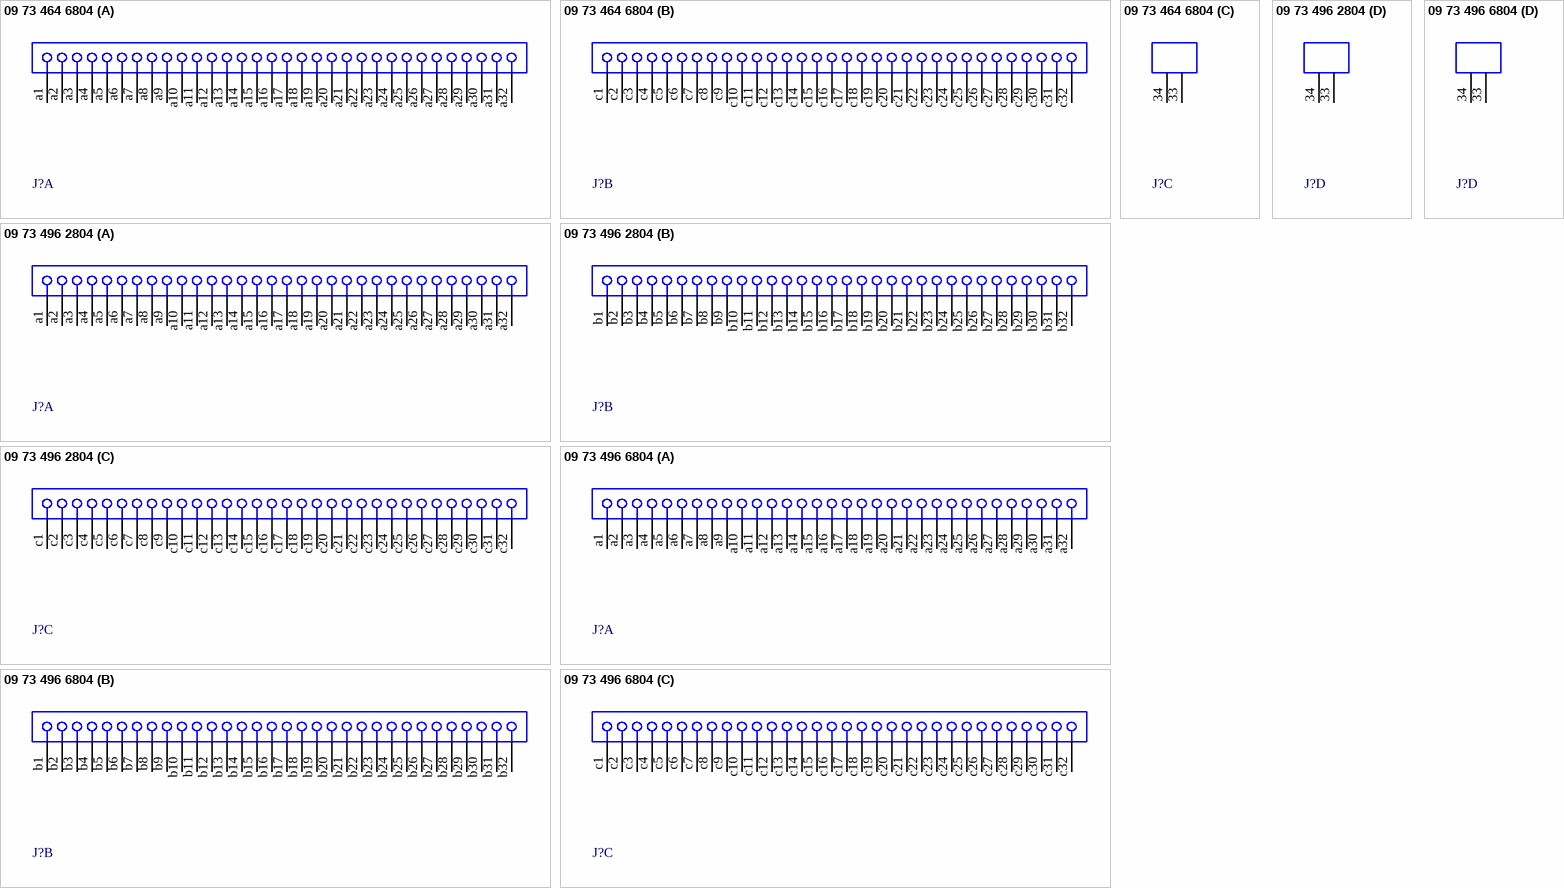
[diagram p11: symbols 09 73 464 6804 to 09 73 496 6804]

## 09 73 464 6804
designator J?
Eurocard DIN 41612, Type R, 64 Position, Rows a+c, Performance level 2, Female, Lead 2.8 mm, Pitch 2.54 mm; DrillSize: Corresponds to nominal value.; Published: 6-Oct-2005; DatasheetDocument: 24-Nov-2004; PackageDocument: 04-Feb-1999; PackageReference: 0973464X804; Publisher: Altium Limited; ComponentLink1Description: Manufacturer Link; ComponentLink1URL: http://www.harting.com/; ComponentLink2Description: Packaging Specification; ComponentLink2URL: http://www.harkis.harting.com/_gds/pdf/TB_0973464x804_BL01_R31102.pdf
footprint 0973464X804 (Connector; DIN 41612, Type R, Thru-Hole; Rows a+c, 64 Position; Right Angle)
signal-integrity model DIN 41612
part A pins: a1, a2, a3, a4, a5, a6, a7, a8, a9, a10, a11, a12, a13, a14, a15, a16, a17, a18, a19, a20, a21, a22, a23, a24, a25, a26, a27, a28, a29, a30, a31, a32
part B pins: c1, c2, c3, c4, c5, c6, c7, c8, c9, c10, c11, c12, c13, c14, c15, c16, c17, c18, c19, c20, c21, c22, c23, c24, c25, c26, c27, c28, c29, c30, c31, c32
part C pins: 33 MH1 "Mounting Fixture", 34 MH2 "Mounting Fixture"

## 09 73 496 2804
designator J?
Eurocard DIN 41612, Type R, 96 Position, Rows a+b+c, Performance level 1, Female, Lead 2.8 mm, Pitch 2.54 mm; DrillSize: Corresponds to nominal value.; Published: 6-Oct-2005; DatasheetDocument: 24-Nov-2004; PackageDocument: 04-Feb-1999; PackageReference: 0973496X804; Publisher: Altium Limited; ComponentLink1Description: Manufacturer Link; ComponentLink1URL: http://www.harting.com/; ComponentLink2Description: Packaging Specification; ComponentLink2URL: http://www.harkis.harting.com/_gds/pdf/TB_0973496x804_BL01_R31102.pdf
footprint 0973496X804 (Connector; DIN 41612, Type R, Thru-Hole; Rows a+b+c, 96 Position; Right Angle)
signal-integrity model DIN 41612
part A pins: a1, a2, a3, a4, a5, a6, a7, a8, a9, a10, a11, a12, a13, a14, a15, a16, a17, a18, a19, a20, a21, a22, a23, a24, a25, a26, a27, a28, a29, a30, a31, a32
part B pins: b1, b2, b3, b4, b5, b6, b7, b8, b9, b10, b11, b12, b13, b14, b15, b16, b17, b18, b19, b20, b21, b22, b23, b24, b25, b26, b27, b28, b29, b30, b31, b32
part C pins: c1, c2, c3, c4, c5, c6, c7, c8, c9, c10, c11, c12, c13, c14, c15, c16, c17, c18, c19, c20, c21, c22, c23, c24, c25, c26, c27, c28, c29, c30, c31, c32
part D pins: 33 MH1 "Mounting Fixture", 34 MH2 "Mounting Fixture"

## 09 73 496 6804
designator J?
Eurocard DIN 41612, Type R, 96 Position, Rows a+b+c, Performance level 2, Female, Lead 2.8 mm, Pitch 2.54 mm; DrillSize: Corresponds to nominal value.; Published: 6-Oct-2005; DatasheetDocument: 24-Nov-2004; PackageDocument: 04-Feb-1999; PackageReference: 0973496X804; Publisher: Altium Limited; ComponentLink1Description: Manufacturer Link; ComponentLink1URL: http://www.harting.com/; ComponentLink2Description: Packaging Specification; ComponentLink2URL: http://www.harkis.harting.com/_gds/pdf/TB_0973496x804_BL01_R31102.pdf
footprint 0973496X804 (Connector; DIN 41612, Type R, Thru-Hole; Rows a+b+c, 96 Position; Right Angle)
signal-integrity model DIN 41612
part A pins: a1, a2, a3, a4, a5, a6, a7, a8, a9, a10, a11, a12, a13, a14, a15, a16, a17, a18, a19, a20, a21, a22, a23, a24, a25, a26, a27, a28, a29, a30, a31, a32
part B pins: b1, b2, b3, b4, b5, b6, b7, b8, b9, b10, b11, b12, b13, b14, b15, b16, b17, b18, b19, b20, b21, b22, b23, b24, b25, b26, b27, b28, b29, b30, b31, b32
part C pins: c1, c2, c3, c4, c5, c6, c7, c8, c9, c10, c11, c12, c13, c14, c15, c16, c17, c18, c19, c20, c21, c22, c23, c24, c25, c26, c27, c28, c29, c30, c31, c32
part D pins: 33 MH1 "Mounting Fixture", 34 MH2 "Mounting Fixture"